# EAGLE library part GW1N-LV4LQ100C6/I5 (library GW1N-LV4LQ100C6_I5)
FPGA - Field Programmable Gate Array Check prices <https://pricing.snapeda.com/parts/GW1N-LV4LQ100C6/I5/GOWIN%20Semiconductor/view-part?ref=eda>
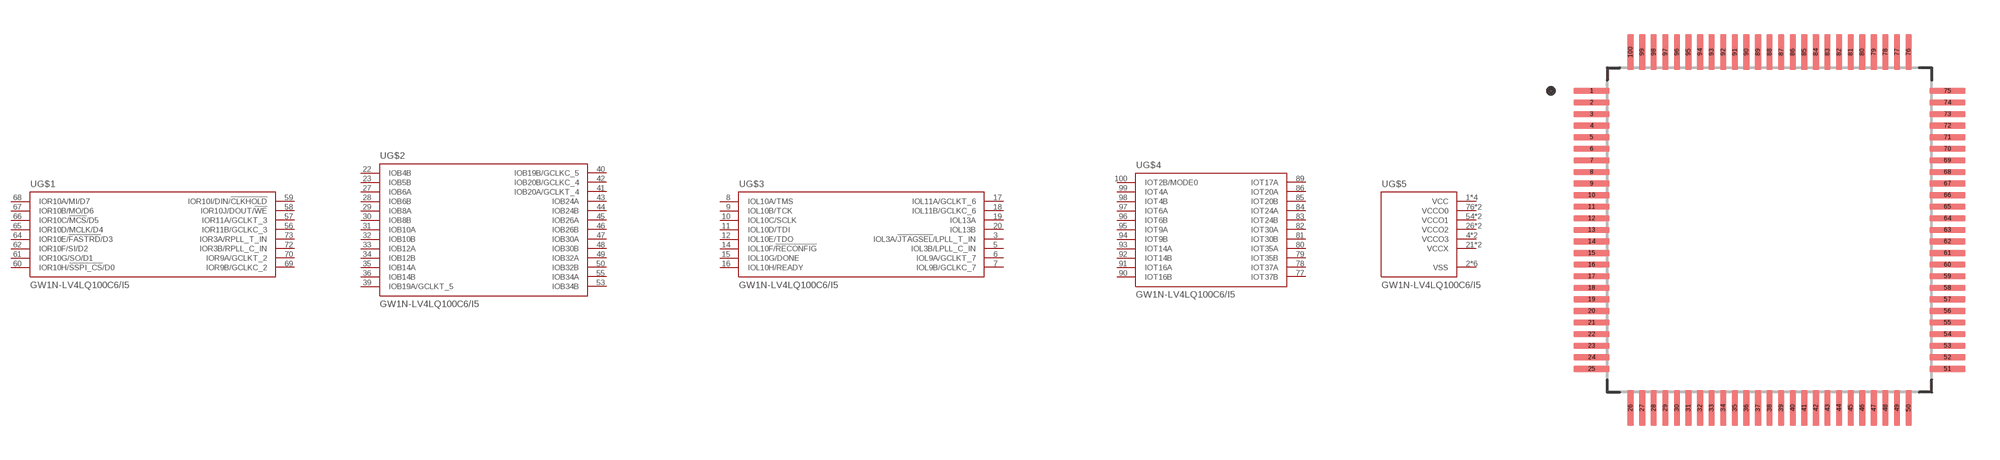
[diagram p0: symbol with the pads of QFP50P1600X1600X160-100N; footprint QFP50P1600X1600X160-100N]

Designator prefix U; gates G$1=GW1N-LV4LQ100C6/I5_BANK1 G$2=GW1N-LV4LQ100C6/I5_BANK2 G$3=GW1N-LV4LQ100C6/I5_BANK3 G$4=GW1N-LV4LQ100C6/I5_BANK0 G$5=GW1N-LV4LQ100C6/I5_POWER

## GW1N-LV4LQ100C6/I5 (Availability: In Stock; Description: FPGA - Field Programmable Gate Array; MF: GOWIN Semiconductor; MP: GW1N-LV4LQ100C6/I5; Package: None; Price: None; Purchase-URL: https://pricing.snapeda.com/search/part/GW1N-LV4LQ100C6/I5/?ref=eda)  [QFP50P1600X1600X160-100N]
1  G$5:VCC  pwr
2  G$5:VSS  pwr
3  G$3:IOL3A/!JTAGSEL!/LPLL_T_IN
4  G$5:VCCO3  pwr
5  G$3:IOL3B/LPLL_C_IN
6  G$3:IOL9A/GCLKT_7
7  G$3:IOL9B/GCLKC_7
8  G$3:IOL10A/TMS
9  G$3:IOL10B/TCK
10  G$3:IOL10C/SCLK
11  G$3:IOL10D/TDI
12  G$3:IOL10E/TDO
13  G$5:VCCO3  pwr
14  G$3:IOL10F/!RECONFIG
15  G$3:IOL10G/DONE
16  G$3:IOL10H/READY
17  G$3:IOL11A/GCLKT_6
18  G$3:IOL11B/GCLKC_6
19  G$3:IOL13A
20  G$3:IOL13B
21  G$5:VCCX  pwr
22  G$2:IOB4B
23  G$2:IOB5B
24  G$5:VSS  pwr
25  G$5:VCC  pwr
26  G$5:VCCO2  pwr
27  G$2:IOB6A
28  G$2:IOB6B
29  G$2:IOB8A
30  G$2:IOB8B
31  G$2:IOB10A
32  G$2:IOB10B
33  G$2:IOB12A
34  G$2:IOB12B
35  G$2:IOB14A
36  G$2:IOB14B
37  G$5:VSS  pwr
38  G$5:VCCO2  pwr
39  G$2:IOB19A/GCLKT_5
40  G$2:IOB19B/GCLKC_5
41  G$2:IOB20A/GCLKT_4
42  G$2:IOB20B/GCLKC_4
43  G$2:IOB24A
44  G$2:IOB24B
45  G$2:IOB26A
46  G$2:IOB26B
47  G$2:IOB30A
48  G$2:IOB30B
49  G$2:IOB32A
50  G$2:IOB32B
51  G$5:VCC  pwr
52  G$5:VSS  pwr
53  G$2:IOB34B
54  G$5:VCCO1  pwr
55  G$2:IOB34A
56  G$1:IOR11B/GCLKC_3
57  G$1:IOR11A/GCLKT_3
58  G$1:IOR10J/DOUT/!WE
59  G$1:IOR10I/DIN/!CLKHOLD
60  G$1:IOR10H/!SSPI_CS!/D0
61  G$1:IOR10G/SO/D1
62  G$1:IOR10F/SI/D2
63  G$5:VCCO1  pwr
64  G$1:IOR10E/!FASTRD!/D3
65  G$1:IOR10D/MCLK/D4
66  G$1:IOR10C/!MCS!/D5
67  G$1:IOR10B/MO/D6
68  G$1:IOR10A/MI/D7
69  G$1:IOR9B/GCLKC_2
70  G$1:IOR9A/GCLKT_2
71  G$5:VCCX  pwr
72  G$1:IOR3B/RPLL_C_IN
73  G$1:IOR3A/RPLL_T_IN
74  G$5:VSS  pwr
75  G$5:VCC  pwr
76  G$5:VCCO0  pwr
77  G$4:IOT37B
78  G$4:IOT37A
79  G$4:IOT35B
80  G$4:IOT35A
81  G$4:IOT30B
82  G$4:IOT30A
83  G$4:IOT24B
84  G$4:IOT24A
85  G$4:IOT20B
86  G$4:IOT20A
87  G$5:VSS  pwr
88  G$5:VCCO0  pwr
89  G$4:IOT17A
90  G$4:IOT16B
91  G$4:IOT16A
92  G$4:IOT14B
93  G$4:IOT14A
94  G$4:IOT9B
95  G$4:IOT9A
96  G$4:IOT6B
97  G$4:IOT6A
98  G$4:IOT4B
99  G$4:IOT4A
100  G$4:IOT2B/MODE0

## Footprint QFP50P1600X1600X160-100N (pad centres in mm)
smd 1.56 x 0.28: 1 -7.68,6; 2 -7.68,5.5; 3 -7.68,5; 4 -7.68,4.5; 5 -7.68,4; 6 -7.68,3.5; 7 -7.68,3; 8 -7.68,2.5; 9 -7.68,2; 10 -7.68,1.5; 11 -7.68,1; 12 -7.68,0.5; 13 -7.68,0; 14 -7.68,-0.5; 15 -7.68,-1; 16 -7.68,-1.5; 17 -7.68,-2; 18 -7.68,-2.5; 19 -7.68,-3; 20 -7.68,-3.5; 21 -7.68,-4; 22 -7.68,-4.5; 23 -7.68,-5; 24 -7.68,-5.5; 25 -7.68,-6; 51 7.68,-6; 52 7.68,-5.5; 53 7.68,-5; 54 7.68,-4.5; 55 7.68,-4; 56 7.68,-3.5; 57 7.68,-3; 58 7.68,-2.5; 59 7.68,-2; 60 7.68,-1.5; 61 7.68,-1; 62 7.68,-0.5; 63 7.68,0; 64 7.68,0.5; 65 7.68,1; 66 7.68,1.5; 67 7.68,2; 68 7.68,2.5; 69 7.68,3; 70 7.68,3.5; 71 7.68,4; 72 7.68,4.5; 73 7.68,5; 74 7.68,5.5; 75 7.68,6
smd 0.28 x 1.56: 26 -6,-7.68; 27 -5.5,-7.68; 28 -5,-7.68; 29 -4.5,-7.68; 30 -4,-7.68; 31 -3.5,-7.68; 32 -3,-7.68; 33 -2.5,-7.68; 34 -2,-7.68; 35 -1.5,-7.68; 36 -1,-7.68; 37 -0.5,-7.68; 38 0,-7.68; 39 0.5,-7.68; 40 1,-7.68; 41 1.5,-7.68; 42 2,-7.68; 43 2.5,-7.68; 44 3,-7.68; 45 3.5,-7.68; 46 4,-7.68; 47 4.5,-7.68; 48 5,-7.68; 49 5.5,-7.68; 50 6,-7.68; 76 6,7.68; 77 5.5,7.68; 78 5,7.68; 79 4.5,7.68; 80 4,7.68; 81 3.5,7.68; 82 3,7.68; 83 2.5,7.68; 84 2,7.68; 85 1.5,7.68; 86 1,7.68; 87 0.5,7.68; 88 0,7.68; 89 -0.5,7.68; 90 -1,7.68; 91 -1.5,7.68; 92 -2,7.68; 93 -2.5,7.68; 94 -3,7.68; 95 -3.5,7.68; 96 -4,7.68; 97 -4.5,7.68; 98 -5,7.68; 99 -5.5,7.68; 100 -6,7.68